# Altium schematic symbol library AD780AR.Schlib: 1 symbol
Pins are listed as number, name and electrical type; pins without a type are passive.

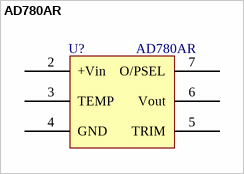
[diagram p0: symbol AD780AR]

## AD780AR
designator U?
Назначение: Источник опорного напряжения; Нименование: AD780AR
footprint SO-8
pins: 2 +Vin (oc), 3 TEMP (oc), 4 GND (oc), 5 TRIM (oc), 6 Vout (oc), 7 O/PSEL (oc)